# EAGLE library part STM32F042K6U6 (library LARS_409_MK)
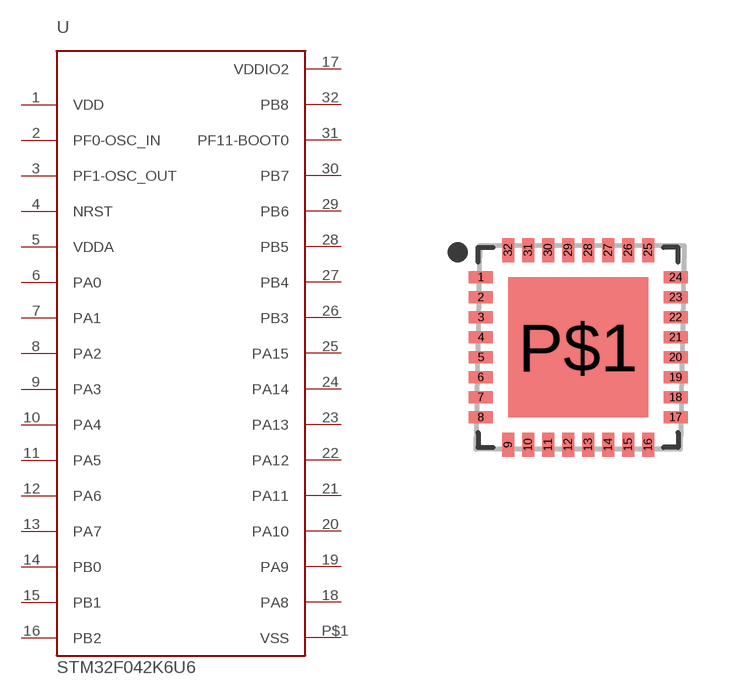
[diagram p7: symbol with the pads of QFN50P500X500X60-32N; footprint QFN50P500X500X60-32N]

Designator prefix U

## STM32F042K6U6  [QFN50P500X500X60-32N]
1  VDD
2  PF0-OSC_IN
3  PF1-OSC_OUT
4  NRST
5  VDDA
6  PA0
7  PA1
8  PA2
9  PA3
10  PA4
11  PA5
12  PA6
13  PA7
14  PB0
15  PB1
16  PB2
17  VDDIO2
18  PA8
19  PA9
20  PA10
21  PA11
22  PA12
23  PA13
24  PA14
25  PA15
26  PB3
27  PB4
28  PB5
29  PB6
30  PB7
31  PF11-BOOT0
32  PB8
P$1  VSS

## Footprint QFN50P500X500X60-32N (pad centres in mm)
32-QFN, 0.50 mm pitch, 5.00 X 5.00 X 0.60 mm body 32-pin QFN package with 0.50 mm pitch with body size 5.00 X 5.00 X 0.60 mm
smd 0.6 x 0.3: 1 -2.435,1.75; 2 -2.435,1.25; 3 -2.435,0.75; 4 -2.435,0.25; 5 -2.435,-0.25; 6 -2.435,-0.75; 7 -2.435,-1.25; 8 -2.435,-1.75; 17 2.435,-1.75; 18 2.435,-1.25; 19 2.435,-0.75; 20 2.435,-0.25; 21 2.435,0.25; 22 2.435,0.75; 23 2.435,1.25; 24 2.435,1.75
smd 0.3 x 0.6: 9 -1.75,-2.435; 10 -1.25,-2.435; 11 -0.75,-2.435; 12 -0.25,-2.435; 13 0.25,-2.435; 14 0.75,-2.435; 15 1.25,-2.435; 16 1.75,-2.435; 25 1.75,2.435; 26 1.25,2.435; 27 0.75,2.435; 28 0.25,2.435; 29 -0.25,2.435; 30 -0.75,2.435; 31 -1.25,2.435; 32 -1.75,2.435
smd 3.5 x 3.5: P$1 0,0